# Altium footprint library NodeMCU1.0.PcbLib: 29 footprints (part 2 of 2)
Each footprint in its own frame and in the unit in brackets; x right, y up, seen from the top. Pads: shape width x height; smd on the part's side, far side on the other; paste and mask are expansions set on the pad; w line width, h text height; cw(c..) or ccw(c..) is an arc to the next point about the centre after c.
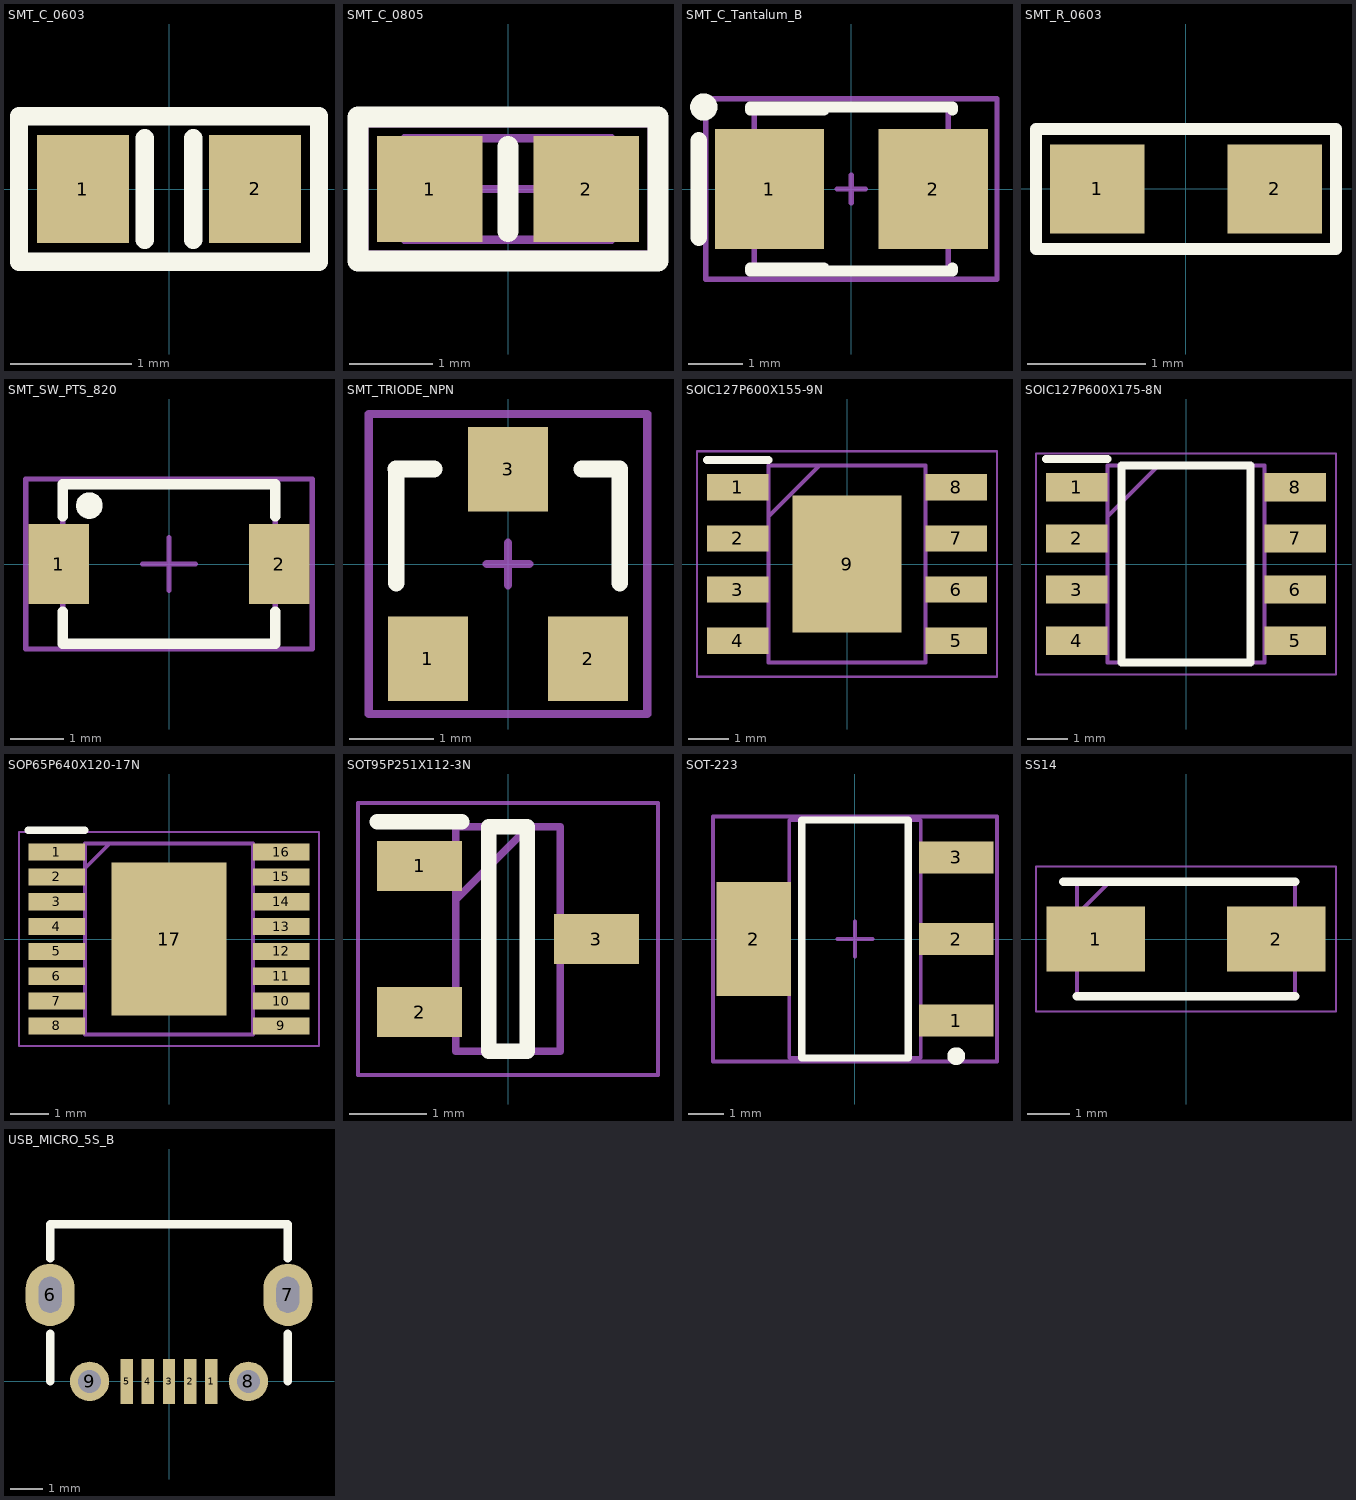
[diagram p1: the footprints below, top view; thin cyan lines are the x and y axes]

## SMT_C_0603 [mil]
height 110.24
pads (2):
  rect 30x35 smd mask+2: 1(-28,0) 2(28,0)
Top Overlay:
  lines w6: -7.87,-16.54 -7.87,16.54 ; 7.87,-16.54 7.87,16.54 ; -48.82,-23.62 48.82,-23.62 48.82,23.62 -48.82,23.62 -48.82,-23.62
3D body "User Library-CapCeramic_Kemet_0603_1608.step": height 31.5, standoff 0, extent -31.49,-15.74 31.5,15.75

## SMT_C_0805 [mil] "Surface mount capacitor 0805"
height 70
pads (2):
  rect 50x50 smd: 1(-37,0) 2(37,0)
Top Overlay:
  lines w10: 0,-20 0,20 ; -71,-34 71,-34 71,34 -71,34 -71,-34
Mechanical 13:
  lines w3.94: -49,-24 49,-24 49,24 -49,24 -49,-24
Mechanical 15:
  lines w3.94: -19.68,0 19.69,0 ; 0,-19.69 0,19.68 ; -68,-31 -68,31 68,31 68,-31 -68,-31
3D body "User Library-0805(2012M) Cap.step": height 31.1, standoff 0, extent -49.37,-24.5 49.38,24.5

## SMT_C_Tantalum_B [mm] "Capacitor, SM Tantalum; Body 3.5 x 2.8 mm (LxW typ)"
height 2.1
pads (2):
  rect 2x2.2 smd: 1(-1.5,0) 2(1.5,0)
Top Overlay:
  circle w0.25: c-2.7,1.5 r0.125
  lines w0.2: -1.85,-1.5 1.85,-1.5 1.85,-1.45 ; -1.85,-1.45 -0.5,-1.45 ; -1.85,1.45 -0.5,1.45 ; -1.85,1.5 1.85,1.5 1.85,1.45
  lines w0.305: -2.794,-0.889 -2.794,0.889
Mechanical 13:
  lines w0.1: -1.778,-1.524 -1.778,1.524 1.778,1.524 1.778,-1.524 -1.778,-1.524
Mechanical 15:
  lines w0.1: -0.254,0 0.254,0 ; 0,-0.254 0,0.254 ; -2.667,-1.651 2.667,-1.651 2.667,1.651 -2.667,1.651 -2.667,-1.651
3D body "User Library-Cap-Tantalum-Case-B-3528-21.step": height 1.9, standoff 0, extent -1.75,-1.403 1.75,1.397

## SMT_R_0603 [mm] "RESISTOR SMD 0603"
height 0.45
pads (2):
  rect 0.8x0.75 smd: 1(-0.75,0) 2(0.75,0)
Top Overlay:
  lines w0.1: -1.27,-0.508 -1.27,0.508 1.27,0.508 1.27,-0.508 -1.27,-0.508
3D body "User Library-0603(1608M) Res.STEP": height 0.79, standoff 0, extent -1,-0.394 1,0.394

## SMT_SW_PTS_820 [mm] "SMT Tactile ?Switch PTS 820 Series"
height 2
pads (4):
  rect 1.143x1.5 smd: 1(-2.075,0) 2(2.075,0)
  round 0 all layers, no hole paste-2.54 mask-2.54: MH1(0,0.9) MH2(0,-0.9)
Top Overlay:
  circle w0.25: c-1.5,1.1 r0.125
  lines w0.2: -2,-0.9 -2,-1.5 2,-1.5 2,-0.9 ; -2,0.9 -2,1.5 2,1.5 2,0.9
Mechanical 13:
  lines w0.1: -2,-1.5 -2,1.5 2,1.5 2,-1.5 -2,-1.5
Mechanical 15:
  lines w0.1: -0.5,0 0.5,0 ; 0,-0.5 0,0.5 ; -2.7,-1.6 -2.7,1.6 2.7,1.6 2.7,-1.6 -2.7,-1.6
3D body "SMT Tactile Switch PTS-820.STEP": height 2.05, standoff -0.5, extent -2.25,-1.55 2.25,1.55

## SMT_TRIODE_NPN [mm] "Surface mount NPN transistor, package SOT-23"
height 1.1
pads (3):
  rect 0.95x1 smd: 1(-0.95,-1.125) 2(0.95,-1.125) 3(0,1.125)
Top Overlay:
  lines w0.2: -1.328,1.125 -0.875,1.125 ; -1.325,-0.225 -1.325,1.125 ; 0.875,1.125 1.325,1.125 1.325,-0.225
Mechanical 15:
  lines w0.1: -0.254,0 0.254,0 ; 0,-0.254 0,0.254 ; -1.651,-1.778 1.651,-1.778 1.651,1.778 -1.651,1.778 -1.651,-1.778
3D body "User Library-SOT23-3.step": height 1.3, standoff 0, extent -1.448,-1.397 1.452,1.403

## SOIC127P600X155-9N [mm]
pads (9):
  rect 1.525x0.65 smd: 1(-2.712,1.905) 2(-2.712,0.635) 3(-2.712,-0.635) 4(-2.712,-1.905) 5(2.712,-1.905) 6(2.712,-0.635) 7(2.712,0.635) 8(2.712,1.905)
  rect 2.71x3.402 smd: 9(0,0)
Top Overlay:
  lines w0.2: -3.475,2.58 -1.95,2.58
Mechanical 15:
  lines w0.1: -1.95,1.18 -0.68,2.45 ; -1.95,-2.45 1.95,-2.45 1.95,2.45 -1.95,2.45 -1.95,-2.45
Mechanical 20:
  lines w0.05: -3.725,-2.8 3.725,-2.8 3.725,2.8 -3.725,2.8 -3.725,-2.8
3D body "AP3512EMPTR-G1.stp": height 1.55, standoff 0, extent -3,-2.45 3,2.45

## SOIC127P600X175-8N [mm]
pads (8):
  rect 1.525x0.7 smd: 1(-2.712,1.905) 2(-2.712,0.635) 3(-2.712,-0.635) 4(-2.712,-1.905) 5(2.712,-1.905) 6(2.712,-0.635) 7(2.712,0.635) 8(2.712,1.905)
Top Overlay:
  lines w0.2: -3.475,2.605 -1.95,2.605 ; -1.6,-2.45 1.6,-2.45 1.6,2.45 -1.6,2.45 -1.6,-2.45
Mechanical 15:
  lines w0.1: -1.95,1.18 -0.68,2.45 ; -1.95,-2.45 1.95,-2.45 1.95,2.45 -1.95,2.45 -1.95,-2.45
Mechanical 20:
  lines w0.05: -3.725,-2.75 3.725,-2.75 3.725,2.75 -3.725,2.75 -3.725,-2.75
3D body "LMV358DR2G.stp": height 1.75, standoff 0, extent -3,-2.45 3,2.45

## SOP65P640X120-17N [mm]
pads (17):
  rect 1.475x0.45 smd: 1(-2.938,2.275) 2(-2.938,1.625) 3(-2.938,0.975) 4(-2.938,0.325) 5(-2.938,-0.325) 6(-2.938,-0.975) 7(-2.938,-1.625) 8(-2.938,-2.275) 9(2.938,-2.275) 10(2.938,-1.625) 11(2.938,-0.975) 12(2.938,-0.325) 13(2.938,0.325) 14(2.938,0.975) 15(2.938,1.625) 16(2.938,2.275)
  rect 3x4 smd: 17(0,0)
Top Overlay:
  lines w0.2: -3.675,2.85 -2.2,2.85
Mechanical 15:
  lines w0.1: -2.2,1.85 -1.55,2.5 ; -2.2,-2.5 -2.2,2.5 2.2,2.5 2.2,-2.5 -2.2,-2.5
Mechanical 20:
  lines w0.05: -3.925,-2.8 -3.925,2.8 3.925,2.8 3.925,-2.8 -3.925,-2.8
3D body "DRV8833PWP.stp": height 1.13, standoff 0, extent -3.2,-2.5 3.2,2.5

## SOT95P251X112-3N [mm]
pads (3):
  rect 1.1x0.65 smd: 1(-1.15,0.95) 2(-1.15,-0.95) 3(1.15,0)
Top Overlay:
  lines w0.2: -1.7,1.525 -0.6,1.525 ; -0.25,-1.46 -0.25,1.46 0.25,1.46 0.25,-1.46 -0.25,-1.46
Mechanical 15:
  lines w0.1: -0.68,0.51 0.27,1.46 ; -0.68,-1.46 -0.68,1.46 0.68,1.46 0.68,-1.46 -0.68,-1.46
Mechanical 20:
  lines w0.05: -1.95,-1.77 -1.95,1.77 1.95,1.77 1.95,-1.77 -1.95,-1.77
3D body "FDN304PZ.stp": height 1.12, standoff 0, extent -1.255,-1.46 1.255,1.46

## SOT-223 [mm] "3 LEAD SOT-223 PLASTIC PACKAGE"
height 1.8
pads (4):
  rect 2.1x0.9 smd: 1(2.85,-2.3) 2(2.85,0) 3(2.85,2.3)
  rect 2.1x3.2 smd: 2(-2.85,0)
Top Overlay:
  circle w0.25: c2.85,-3.3 r0.125
  lines w0.2: -1.5,-3.35 -1.5,3.35 1.5,3.35 1.5,-3.35 -1.5,-3.35
Mechanical 13:
  lines w0.1: -1.85,-3.35 -1.85,3.35 1.85,3.35 1.85,-3.35 -1.85,-3.35
Mechanical 15:
  lines w0.1: -0.5,0 0.5,0 ; 0,-0.5 0,0.5 ; -4,-3.45 -4,3.45 4,3.45 4,-3.45 -4,-3.45
3D body "User Library-SOT-223-4.STEP": height 1.65, standoff 0, extent -3.543,-3.25 3.543,3.25

## SS14 [mm]
height 2.8
pads (2):
  rect 2.35x1.55 smd: 1(-2.15,0) 2(2.15,0)
Top Overlay:
  lines w0.2: -2.925,1.362 2.6,1.362 ; -2.6,-1.362 2.6,-1.362
Mechanical 15:
  lines w0.1: -2.6,0.588 -1.825,1.362 ; -2.6,-1.362 -2.6,1.362 2.6,1.362 2.6,-1.362 -2.6,-1.362
Mechanical 20:
  lines w0.05: -3.575,-1.725 -3.575,1.725 3.575,1.725 3.575,-1.725 -3.575,-1.725
3D body "SS14.stp": height 2.7, standoff 0, extent -2.6,-1.362 2.6,1.362

## USB_MICRO_5S_B [mil] "USB Micro SMT 5S B"
height 118.11
pads (9):
  rect 15x54 smd: 1(51,0) 2(25.5,0) 3(0,0) 4(-25.5,0) 5(-51,0)
  oval 59.06x74.8 hole 27.56 slot 43.31 at 90 deg: 6(-143,104) 7(143,104)
  round 47.24 hole 27.5: 8(95.5,0) 9(-95.5,0)
Top Overlay:
  lines w10: -142.72,0 -142.72,57.28 ; -142.72,147.72 -142.72,188.98 142.72,188.98 142.72,147.72 ; 142.72,0 142.72,57.28
3D body "User Library-Micro USB-B_Molex_105017-0001.step": height 105.31, standoff -24.61, extent -161.42,-9.33 161.41,204.44